# Altium schematic symbol library IS-uIG5-0.SchLib: 1 symbol
Pins are listed as number, name and electrical type; pins without a type are passive.

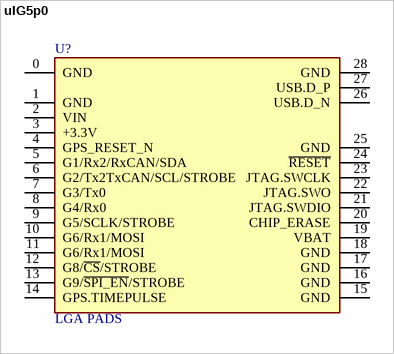
[diagram p0: symbol uIG5p0]

## uIG5p0
designator U?, comment LGA PADS
Inertial Sense uIG5 GNSS INS Module
footprint uIG5p1_LGA
pins: 0 GND, 1 GND, 2 VIN, 3 +3.3V, 4 GPS_RESET_N, 5 G1/Rx2/RxCAN/SDA, 6 G2/Tx2TxCAN/SCL/STROBE, 7 G3/Tx0, 8 G4/Rx0, 9 G5/SCLK/STROBE, 10 G6/Rx1/MOSI, 11 G6/Rx1/MOSI, 12 G8/~{CS}/STROBE, 13 G9/~{SPI_EN}/STROBE, 14 GPS.TIMEPULSE, 15 GND, 16 GND, 17 GND, 18 GND, 19 VBAT, 20 CHIP_ERASE, 21 JTAG.SWDIO, 22 JTAG.SWO, 23 JTAG.SWCLK, 24 ~{RESET}, 25 GND, 26 USB.D_N, 27 USB.D_P, 28 GND